# Altium footprint library FAN20X20X10.PcbLib: 1 footprints
Each footprint in its own frame and in the unit in brackets; x right, y up, seen from the top. Pads: shape width x height; smd on the part's side, far side on the other; paste and mask are expansions set on the pad; w line width, h text height; cw(c..) or ccw(c..) is an arc to the next point about the centre after c.
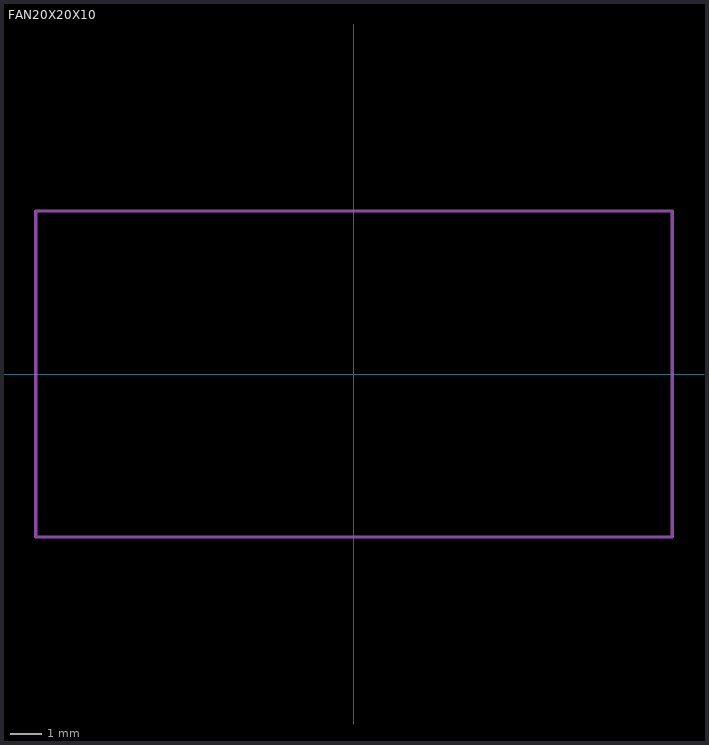
[diagram p0: the footprint, top view; thin cyan lines are the x and y axes]

## FAN20X20X10 [mm]
height 20
Mechanical 13:
  lines w0.1: -10,-5.125 -10,5.125 10,5.125 10,-5.125 -10,-5.125
3D body: height 20, standoff 0, extent -10,-5.125 10,5.125